# Altium footprint library AMP Serial Bus USB.PcbLib: 41 footprints (part 1 of 3)
Each footprint in its own frame and in the unit in brackets; x right, y up, seen from the top. Pads: shape width x height; smd on the part's side, far side on the other; paste and mask are expansions set on the pad; w line width, h text height; cw(c..) or ccw(c..) is an arc to the next point about the centre after c.
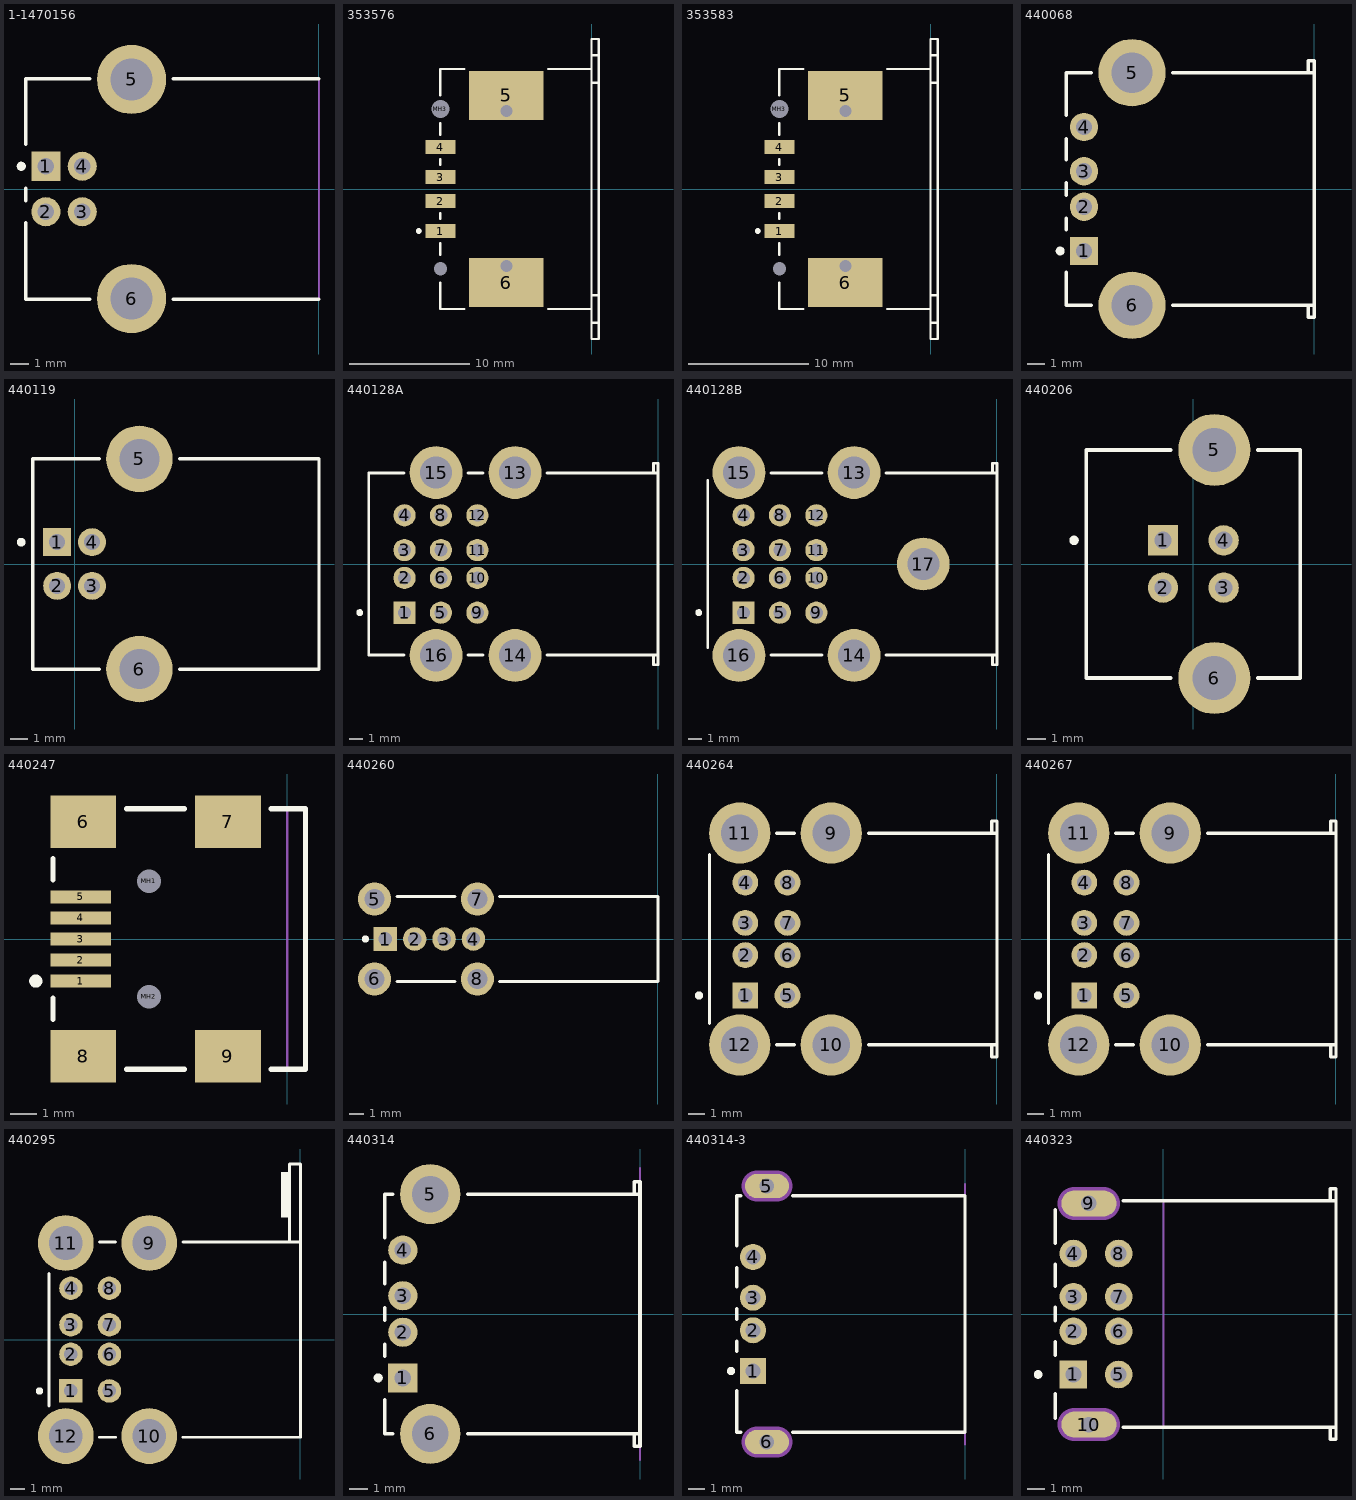
[diagram p0: the footprints below, top view; thin cyan lines are the x and y axes]

## 1-1470156 [mm] "Connector; USB1.1, Type B, Thru-Hole; 4 Position; Right Angle"
height 10.95
pads (6):
  rect 1.6x1.6 hole 0.92: 1(-15.01,1.25)
  round 1.6 hole 0.92: 2(-15.01,-1.25) 3(-13.01,-1.25) 4(-13.01,1.25)
  round 3.8 hole 2.3: 5(-10.3,6.02) 6(-10.3,-6.02)
Top Overlay:
  circle w0.25: c-16.36,1.25 r0.125
  lines w0.2: -16.12,-1.85 -16.12,-6.05 -12.6,-6.05 ; -16.12,-0.65 -16.12,0.05 ; -16.12,2.45 -16.12,6.05 -12.6,6.05 ; -8,-6.05 -0.02,-6.05 ; -8,6.05 -0.02,6.05
Mechanical 1:
  lines w0.1: 0,-6.05 0,6.05
  text "PCB Edge" at -0.325,-5.651 h0.25

## 353576 [mm] "Connector; USB1.1, Type A, SM; 4 Position; Right Angle"
height 7.8
pads (10):
  rect 2.5x1.2 smd: 1(-12.6,-3.5) 2(-12.6,-1) 3(-12.6,1) 4(-12.6,3.5)
  rect 6.2x4.1 smd: 5(-7.1,7.8) 6(-7.1,-7.8)
  round 0.7 hole 1 unplated: MH1(-7.1,6.496) MH2(-7.1,-6.404)
  round 1.2 hole 1.5 unplated: MH3(-12.6,6.65)
  round 0.8 hole 1.1 unplated: MH4(-12.6,-6.65)
Top Overlay:
  circle w0.25: c-14.4,-3.5 r0.125
  lines w0.2: -12.6,-7.8 -12.6,-10 -10.6,-10 ; -12.6,-5.5 -12.6,-4.5 ; -12.6,-2.5 -12.6,-2 ; -12.6,2 -12.6,2.5 ; -12.6,4.5 -12.6,5.5 ; -12.6,7.8 -12.6,10 -10.6,10 ; -3.6,-10 0,-10 ; -3.6,10 0,10 ; 0,-11.15 0.576,-11.15 ; 0,-8.85 0.6,-8.85 ; 0,8.85 0.588,8.85 ; 0,11.15 0.588,11.15 ; 0,-12.5 0.6,-12.5 0.6,12.5 0,12.5 0,-12.5

## 353583 [mm] "Connector; USB1.1, Type A, SM; 4 Position; Right Angle"
height 7.8
pads (10):
  rect 2.5x1.2 smd: 1(-12.6,-3.5) 2(-12.6,-1) 3(-12.6,1) 4(-12.6,3.5)
  rect 6.2x4.1 smd: 5(-7.1,7.8) 6(-7.1,-7.8)
  round 0.7 hole 1 unplated: MH1(-7.1,6.496) MH2(-7.1,-6.404)
  round 1.2 hole 1.5 unplated: MH3(-12.6,6.65)
  round 0.8 hole 1.1 unplated: MH4(-12.6,-6.65)
Top Overlay:
  circle w0.25: c-14.4,-3.5 r0.125
  lines w0.2: -12.6,-7.8 -12.6,-10 -10.6,-10 ; -12.6,-5.5 -12.6,-4.5 ; -12.6,-2.5 -12.6,-2 ; -12.6,2 -12.6,2.5 ; -12.6,4.5 -12.6,5.5 ; -12.6,7.8 -12.6,10 -10.6,10 ; -3.6,-10 0,-10 ; -3.6,10 0,10 ; 0,-11.15 0.576,-11.15 ; 0,-8.85 0.6,-8.85 ; 0,8.85 0.588,8.85 ; 0,11.15 0.588,11.15 ; 0,-12.5 0.6,-12.5 0.6,12.5 0,12.5 0,-12.5

## 440068 [mm] "Connector; USB1.1, Reverse Type, Thru-Hole; 4 Position; Right Angle"
height 6.95
pads (6):
  rect 1.6x1.6 hole 0.92: 1(-12.99,-3.5)
  round 1.6 hole 0.92: 2(-12.99,-1) 3(-12.99,1) 4(-12.99,3.5)
  round 3.8 hole 2.3: 5(-10.28,6.57) 6(-10.28,-6.57)
Top Overlay:
  circle w0.25: c-14.34,-3.5 r0.125
  lines w0.2: -14,-4.7 -14,-6.565 -12.58,-6.565 ; -14,-2.3 -14,-1.66 ; -14,-0.34 -14,0.34 ; -14,1.66 -14,2.84 ; -14,4.16 -14,6.565 -12.58,6.565 ; -7.98,-6.565 0,-6.565 ; -7.98,6.565 0,6.565 ; -0.32,-6.565 -0.32,-7.25 0,-7.25 0,-6.565 ; -0.32,6.565 -0.32,7.25 0,7.25 0,6.565 ; 0,-6.565 0,6.565

## 440119 [mm] "Connector; USB1.1, Type B, Thru-Hole; 4 Position; Right Angle"
height 11.05
pads (6):
  rect 1.6x1.6 hole 0.92: 1(-1,1.25)
  round 1.6 hole 0.92: 2(-1,-1.25) 3(1,-1.25) 4(1,1.25)
  round 3.8 hole 2.3: 5(3.71,6.02) 6(3.71,-6.02)
Top Overlay:
  circle w0.25: c-3.06,1.25 r0.125
  lines w0.2: 1.41,-6.02 -2.41,-6.02 -2.41,6.02 1.41,6.02 ; 6.01,-6.02 13.99,-6.02 13.99,6.02 6.01,6.02

## 440128A [mm] "Connector; USB1.1, Type A, Thru-Hole; 4x4x4 Position; Right Angle"
height 23.9
pads (16):
  rect 1.6x1.6 hole 0.92: 1(-18.23,-3.5)
  round 1.6 hole 0.92: 2(-18.23,-1) 3(-18.23,1) 4(-18.23,3.5) 5(-15.61,-3.5) 6(-15.61,-1) 7(-15.61,1) 8(-15.61,3.5) 9(-12.99,-3.5) 10(-12.99,-1) 11(-12.99,1) 12(-12.99,3.5)
  round 3.8 hole 2.3: 13(-10.28,6.57) 14(-10.28,-6.57) 15(-15.96,6.57) 16(-15.96,-6.57)
Top Overlay:
  circle w0.25: c-21.45,-3.5 r0.125
  lines w0.2: -18.26,-6.55 -20.8,-6.55 -20.8,6.55 -18.26,6.55 ; -13.66,-6.55 -12.58,-6.55 ; -13.66,6.55 -12.58,6.55 ; -7.98,-6.55 0,-6.55 ; -7.98,6.55 0,6.55 ; -0.32,-6.55 -0.32,-7.25 0,-7.25 0,-6.55 ; -0.32,6.55 -0.32,7.25 0,7.25 0,6.55 ; 0,-6.55 0,6.55

## 440128B [mm] "Connector; USB1.1, Type A, Thru-Hole; 4x4x4 Position; Right Angle"
height 23.9
pads (17):
  rect 1.6x1.6 hole 0.92: 1(-18.23,-3.5)
  round 1.6 hole 0.92: 2(-18.23,-1) 3(-18.23,1) 4(-18.23,3.5) 5(-15.61,-3.5) 6(-15.61,-1) 7(-15.61,1) 8(-15.61,3.5) 9(-12.99,-3.5) 10(-12.99,-1) 11(-12.99,1) 12(-12.99,3.5)
  round 3.8 hole 2.3: 13(-10.28,6.57) 14(-10.28,-6.57) 15(-18.56,6.57) 16(-18.56,-6.57) 17(-5.3,0)
Top Overlay:
  circle w0.25: c-21.45,-3.5 r0.125
  lines w0.2: -20.8,-6.03 -20.8,6.03 ; -16.26,-6.55 -12.58,-6.55 ; -16.26,6.55 -12.58,6.55 ; -7.98,-6.55 0,-6.55 ; -7.98,6.55 0,6.55 ; -0.32,-6.55 -0.32,-7.25 0,-7.25 0,-6.55 ; -0.32,6.55 -0.32,7.25 0,7.25 0,6.55 ; 0,-6.55 0,6.55

## 440206 [mm] "Connector; USB1.1, Type B, Thru-Hole; 4 Position; Vertical"
height 16
pads (6):
  rect 1.6x1.6 hole 0.92: 1(-1.6,1.25)
  round 1.6 hole 0.92: 2(-1.6,-1.25) 3(1.6,-1.25) 4(1.6,1.25)
  round 3.8 hole 2.3: 5(1.11,6.02) 6(1.11,-6.02)
Top Overlay:
  circle w0.25: c-6.3,1.25 r0.125
  lines w0.2: -1.19,-6.02 -5.65,-6.02 -5.65,6.02 -1.19,6.02 ; 3.41,-6.02 5.65,-6.02 5.65,6.02 3.41,6.02

## 440247 [mm] "Connector; USB2.0, Type B, SM; 5 Position; Right Angle"
height 3.9
pads (11):
  rect 2.3x0.5 smd: 1(-7.85,-1.6) 2(-7.85,-0.8) 3(-7.85,0) 4(-7.85,0.8) 5(-7.85,1.6)
  rect 2.5x2 smd: 6(-7.75,4.45) 7(-2.25,4.45) 8(-7.75,-4.45) 9(-2.25,-4.45)
  round 0.6 hole 0.9 unplated: MH1(-5.25,2.2) MH2(-5.25,-2.2)
Top Overlay:
  circle w0.25: c-9.55,-1.6 r0.125
  lines w0.2: -8.9,-3.05 -8.9,-2.25 ; -8.9,2.25 -8.9,3.05 ; -6.1,-4.95 -3.9,-4.95 ; -6.1,4.95 -3.9,4.95 ; -0.6,-4.95 0.7,-4.95 0.7,4.95 -0.6,4.95
Mechanical 1:
  lines w0.1: 0,-4.95 0,4.95
  text "PCB Edge" at 0.432,-4.036 h0.25

## 440260 [mm] "Connector; USB1.1, Type A, Thru-Hole; 4 Position; Right Angle"
height 13.83
pads (8):
  rect 1.6x1.6 hole 0.92: 1(-18.56,0)
  round 1.6 hole 0.92: 2(-16.56,0) 3(-14.56,0) 4(-12.56,0)
  round 2.25 hole 1.35: 5(-19.29,2.72) 6(-19.29,-2.72) 7(-12.29,2.72) 8(-12.29,-2.72)
Top Overlay:
  circle w0.25: c-19.91,0 r0.125
  lines w0.2: -17.773,-2.88 -13.807,-2.88 ; -17.773,2.88 -13.807,2.88 ; -10.773,-2.88 0,-2.88 0,2.88 -10.773,2.88

## 440264 [mm] "Connector; USB1.1, Type A, Thru-Hole; 4x4 Position; Right Angle"
height 15.82
pads (12):
  rect 1.6x1.6 hole 0.92: 1(-15.61,-3.5)
  round 1.6 hole 0.92: 2(-15.61,-1) 3(-15.61,1) 4(-15.61,3.5) 5(-12.99,-3.5) 6(-12.99,-1) 7(-12.99,1) 8(-12.99,3.5)
  round 3.8 hole 2.3: 9(-10.28,6.57) 10(-10.28,-6.57) 11(-15.96,6.57) 12(-15.96,-6.57)
Top Overlay:
  circle w0.25: c-18.48,-3.5 r0.125
  lines w0.2: -17.83,-5.23 -17.83,5.23 ; -13.66,-6.565 -12.58,-6.565 ; -13.66,6.565 -12.58,6.565 ; -7.97,-6.565 0,-6.565 ; -7.97,6.565 0,6.565 ; -0.32,-6.565 -0.32,-7.315 0,-7.315 0,-6.565 ; -0.32,6.565 -0.32,7.315 0,7.315 0,6.565 ; 0,-6.565 0,6.565

## 440267 [mm] "Connector; USB1.1, Type A, Thru-Hole; 4x4 Position; Right Angle"
height 15.82
pads (12):
  rect 1.6x1.6 hole 0.92: 1(-15.61,-3.5)
  round 1.6 hole 0.92: 2(-15.61,-1) 3(-15.61,1) 4(-15.61,3.5) 5(-12.99,-3.5) 6(-12.99,-1) 7(-12.99,1) 8(-12.99,3.5)
  round 3.8 hole 2.3: 9(-10.28,6.57) 10(-10.28,-6.57) 11(-15.96,6.57) 12(-15.96,-6.57)
Top Overlay:
  circle w0.25: c-18.48,-3.5 r0.125
  lines w0.2: -17.83,-5.23 -17.83,5.23 ; -13.66,-6.565 -12.58,-6.565 ; -13.66,6.565 -12.58,6.565 ; -7.97,-6.565 0,-6.565 ; -7.97,6.565 0,6.565 ; -0.32,-6.565 -0.32,-7.315 0,-7.315 0,-6.565 ; -0.32,6.565 -0.32,7.315 0,7.315 0,6.565 ; 0,-6.565 0,6.565

## 440295 [mm] "Connector; USB1.1, Type A, Thru-Hole; 4x4 Position; Right Angle"
height 15.47
pads (12):
  rect 1.6x1.6 hole 0.92: 1(-15.61,-3.5)
  round 1.6 hole 0.92: 2(-15.61,-1) 3(-15.61,1) 4(-15.61,3.5) 5(-12.99,-3.5) 6(-12.99,-1) 7(-12.99,1) 8(-12.99,3.5)
  round 3.8 hole 2.3: 9(-10.28,6.57) 10(-10.28,-6.57) 11(-15.96,6.57) 12(-15.96,-6.57)
Top Overlay:
  circle w0.25: c-17.75,-3.5 r0.125
  rectangle: -1.33,8.3 -0.75,11.42
  lines w0.2: -17.1,-4.51 -17.1,4.51 ; -13.68,-6.65 -12.58,-6.65 ; -13.66,6.65 -12.58,6.65 ; -7.97,-6.65 0,-6.65 0,6.65 ; -7.97,6.65 0,6.65 ; -0.75,6.65 -0.75,11.95 0,11.95 0,6.65

## 440314 [mm] "Connector; USB1.1, Series A, Reverse Type, Thru-Hole; 4 Position; Right Angle"
height 6.5
pads (6):
  rect 1.6x1.6 hole 0.92: 1(-13,-3.5)
  round 1.6 hole 0.92: 2(-13,-1) 3(-13,1) 4(-13,3.5)
  round 3.3 hole 2: 5(-11.5,6.57) 6(-11.5,-6.57)
Top Overlay:
  circle w0.25: c-14.35,-3.5 r0.125
  lines w0.2: -14,-4.7 -14,-6.565 -13.55,-6.565 ; -14,-2.3 -14,-1.67 ; -14,-0.33 -14,0.33 ; -14,1.67 -14,2.83 ; -14,4.17 -14,6.565 -13.55,6.565 ; -9.45,-6.565 0,-6.565 ; -9.45,6.565 0,6.565 ; -0.32,-6.565 -0.32,-7.25 0,-7.25 0,-6.565 ; -0.32,6.565 -0.32,7.25 0,7.25 0,6.565 ; 0,-6.565 0,6.565
Mechanical 1:
  lines w0.1: 0,-8 0,8
  text "PCB Edge" at -0.336,-6.303 h0.25

## 440314-3 [mm] "Connector; USB1.1, Series A, Reverse Type, Thru-Hole; 4 Position; Right Angle"
height 6.5
pads (6):
  rect 1.6x1.6 hole 0.92: 1(-13,-3.5)
  round 1.6 hole 0.92: 2(-13,-1) 3(-13,1) 4(-13,3.5)
  oval 2.7x1.5 hole 0.9: 5(-12.15,7.85) 6(-12.15,-7.85)
Top Overlay:
  circle w0.25: c-14.35,-3.5 r0.125
  lines w0.2: -14,-4.7 -14,-7.25 -13.74,-7.25 ; -14,-2.3 -14,-1.67 ; -14,-0.33 -14,0.33 ; -14,1.67 -14,2.83 ; -14,4.17 -14,7.25 -13.74,7.25 ; -10.56,-7.25 0,-7.25 0,7.25 -10.56,7.25
Mechanical 1:
  lines w0.1: 0,-8 0,8
  lines w0.9: -12.75,-7.85 -12.15,-7.85 -11.55,-7.85 ; -12.75,7.85 -11.55,7.85
  text "Mech 2 - Clearance, move to internal plane if present" at -14,9.167 h0.3
  text "Mech 1 - Slot cut-out" at -14,9.667 h0.3
  text "Assign keep-out area to slot" at -14,11.167 h0.3
  text "Slot 0.9x2.1mm, PTH" at -14,10.167 h0.3
  text "Alert PCB fab to slot details" at -14,10.667 h0.3
  text "PCB Edge" at -0.324,-6.966 h0.25
Mechanical 2:
  lines w1.916: -12.75,-7.85 -11.55,-7.85 ; -12.75,7.85 -11.55,7.85

## 440323 [mm] "Connector; USB1.1, Type A, Thru-Hole; 4x4 Position; Right Angle"
height 15.51
pads (10):
  rect 1.6x1.6 hole 0.92: 1(-5.21,-3.5)
  round 1.6 hole 0.92: 2(-5.21,-1) 3(-5.21,1) 4(-5.21,3.5) 5(-2.59,-3.5) 6(-2.59,-1) 7(-2.59,1) 8(-2.59,3.5)
  oval 3.2x1.5 hole 0.9: 9(-4.31,6.4) 10(-4.31,-6.4)
Top Overlay:
  circle w0.25: c-7.25,-3.5 r0.125
  lines w0.2: -6.25,-6.03 -6.25,-4.62 ; -6.25,-2.38 -6.25,-1.61 ; -6.25,-0.4 -6.25,0.4 ; -6.25,1.61 -6.25,2.88 ; -6.25,4.1 -6.25,6.03 ; -2.32,-6.55 9.99,-6.55 ; -2.32,6.55 9.99,6.55 ; 9.67,-6.55 9.67,-7.25 9.99,-7.25 9.99,-6.55 ; 9.67,6.55 9.67,7.25 9.99,7.25 9.99,6.55 ; 9.99,-6.55 9.99,6.55
Mechanical 1:
  lines w0.1: 0,-6.55 0,6.55
  lines w0.9: -5.16,-6.4 -3.46,-6.4 ; -5.16,6.4 -3.46,6.4
  text "PCB Edge" at 0.347,-6.248 h0.2
  text "Alert PCB fab to slot details" at -6.16,9.217 h0.3
  text "Slot 0.9x2.6mm, PTH" at -6.16,8.717 h0.3
  text "Assign keep-out area to slot" at -6.16,9.717 h0.3
  text "Mech 1 - Slot cut-out" at -6.16,8.217 h0.3
  text "Mech 2 - Clearance, move to internal plane if present" at -6.16,7.717 h0.3
Mechanical 2:
  lines w1.916: -5.16,-6.4 -3.46,-6.4 ; -5.16,6.4 -3.46,6.4